# Altium footprint library ECET231_ProjectThree_PCBLIB_Rev01.PcbLib: 16 footprints
Each footprint in its own frame and in the unit in brackets; x right, y up, seen from the top. Pads: shape width x height; smd on the part's side, far side on the other; paste and mask are expansions set on the pad; w line width, h text height; cw(c..) or ccw(c..) is an arc to the next point about the centre after c.
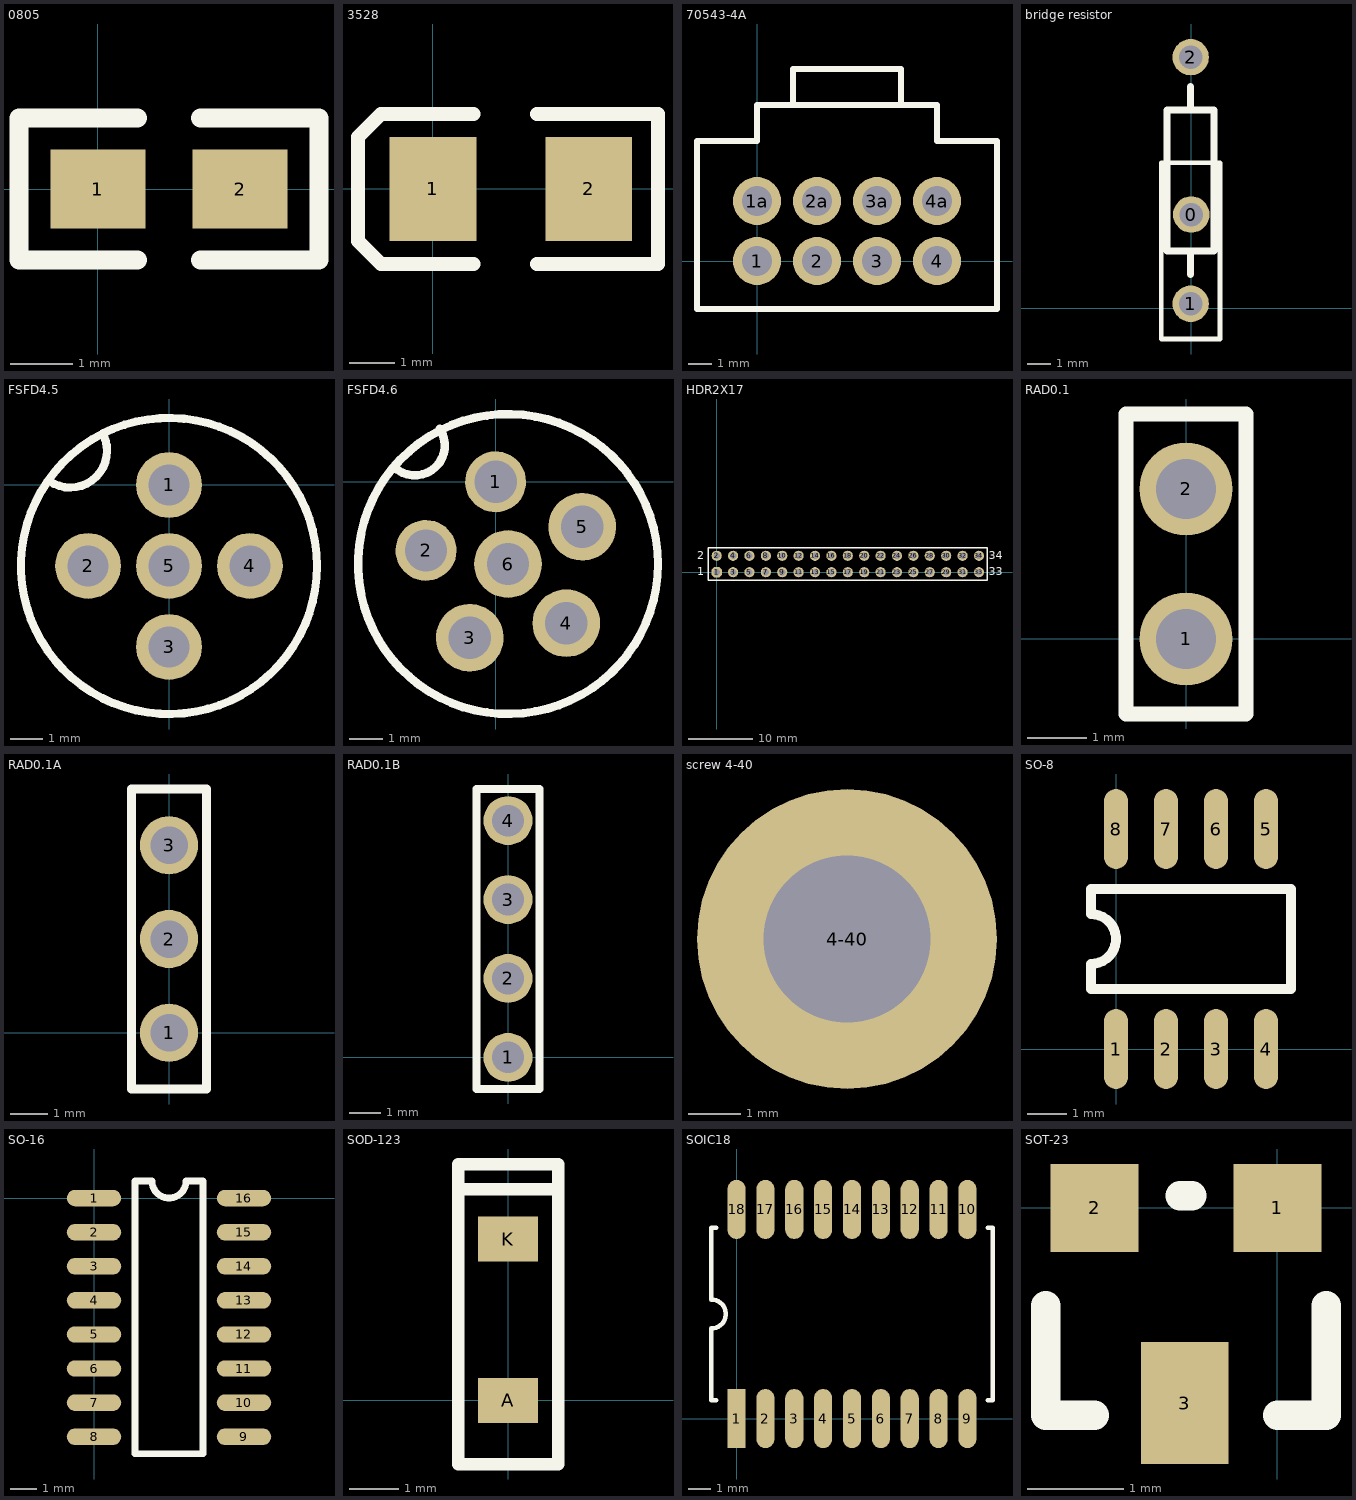
[diagram p0: the footprints below, top view; thin cyan lines are the x and y axes]

## 0805 [mil]
pads (2):
  rect 60x50 smd: 1(0,0) 2(90,0)
Top Overlay:
  lines w12: 25,-45 -50,-45 -50,45 25,45 ; 65,-45 140,-45 140,45 65,45

## 3528 [mil]
pads (2):
  rect 75x90 smd: 1(0,0) 2(135,0)
Top Overlay:
  lines w12: 35,-65 -45,-65 -65,-45 -65,45 -45,65 35,65 ; 90,-65 195,-65 195,65 90,65

## 70543-4A [mil]
pads (8):
  round 80 hole 50: 1(0,0) 1a(0,100) 2(100,0) 2a(100,100) 3(200,0) 3a(200,100) 4(300,0) 4a(300,100)
Top Overlay:
  lines w10: -100,0 -100,100 -100,200 0,200 0,260 300,260 300,200 400,200 400,100 400,0 ; -100,20 -100,-80 0,-80 300,-80 400,-80 400,20 ; 60,260 60,320 240,320 240,260

## bridge resistor [mil]
pads (3):
  round 62 hole 40: 0(0,160) 1(-1,8) 2(-1,428)
Top Overlay:
  lines w8: -51,-52 -51,248 49,248 49,-52 -51,-52
  lines w12: -1,58 -1,98 ; -1,338 -1,378 ; -41,98 -41,338 39,338 39,98 -41,98

## FSFD4.5 [mil]
pads (5):
  round 80 hole 50: 1(0,0) 2(-98.42,-98.42) 3(0,-196.85) 4(98.42,-98.42) 5(0,-98.42)
Top Overlay:
  circle w10: c0,-98.42 r180
  lines w10: -140,1.58 ccw(c-120,41.58) -80,61.57

## FSFD4.6 [mil]
pads (6):
  round 72 hole 50: 1(0,0) 2(-82.15,-80.99)
  round 80 hole 50: 3(-30.51,-184.15) 4(83.56,-166.91) 5(102.42,-53.1) 6(14.66,-97.03)
Top Overlay:
  circle w10: c14.66,-97.03 r177.16
  lines w10: -120.34,17.97 ccw(c-95.34,42.97) -65.92,62.58

## HDR2X17 [mil]
pads (34):
  oct 62x62 hole 40: 1(0,0)
  round 62 hole 40: 2(0,100) 3(100,0) 4(100,100) 5(200,0) 6(200,100) 7(300,0) 8(300,100) 9(400,0) 10(400,100) 11(500,0) 12(500,100) 13(600,0) 14(600,100) 15(700,0) 16(700,100) 17(800,0) 18(800,100) 19(900,0) 20(900,100) 21(1000,0) 22(1000,100) 23(1100,0) 24(1100,100) 25(1200,0) 26(1200,100) 27(1300,0) 28(1300,100) 29(1400,0) 31(1500,0) 32(1500,100) 33(1600,0) 34(1600,100)
  round 62 hole 42: 30(1400,100)
Top Overlay:
  lines w8: -50,-50 -50,150 1650,150 1650,-50 -50,-50
  text "2" at -120,80 h50
  text "1" at -120,-20 h50
  text "33" at 1660,-20 h50
  text "34" at 1660,80 h50

## RAD0.1 [mil]
pads (2):
  round 62 hole 40: 1(0,0) 2(0,100)
Top Overlay:
  lines w10: -40,-50 -40,150 0,150 40,150 40,-30 40,-50 -40,-50

## RAD0.1A [mil]
pads (3):
  round 62 hole 40: 1(0,0) 2(0,100) 3(0,200)
Top Overlay:
  lines w10: -40,-60 -40,260 0,260 40,260 40,-60 -40,-60

## RAD0.1B [mil]
pads (4):
  round 62 hole 40: 1(0,0) 2(0,100) 3(0,200) 4(0,300)
Top Overlay:
  lines w10: -40,-40 -40,240 -40,340 40,340 40,240 40,140 40,60 40,-40 -40,-40

## screw 4-40 [mil]
pads (1):
  round 225 hole 125: 4-40(50107,49660)

## SO-8 [mil]
pads (8):
  oval 24x80 smd: 1(0,0) 2(50,0) 3(100,0) 4(150,0) 5(150,220) 6(100,220) 7(50,220) 8(0,220)
Top Overlay:
  lines w10: -25,60 175,60 175,160 -25,160 -25,135 cw(c-25,110) -25,85 -25,60

## SO-16 [mil]
pads (16):
  oval 80x24 smd: 1(0,0) 2(0,-50) 3(0,-100) 4(0,-150) 5(0,-200) 6(0,-250) 7(0,-300) 8(0,-350) 9(220,-350) 10(220,-300) 11(220,-250) 12(220,-200) 13(220,-150) 14(220,-100) 15(220,-50) 16(220,0)
Top Overlay:
  lines w10: 60,-375 60,25 85,25 ccw(c110,25) 135,25 160,25 160,-375 60,-375

## SOD-123 [mil]
pads (2):
  rect 48x36 smd: A(0,0) K(0,129)
Top Overlay:
  lines w8: -40,11.5 -40,21.5 ; 40,11.5 40,21.5
  lines w10: -40,169 40,169 ; -40,-51 -40,189 40,189 40,-51 -40,-51

## SOIC18 [mm]
pads (18):
  rect 0.8x2.6 smd: 1(0,0)
  oval 0.8x2.6 smd: 2(1.27,0) 3(2.54,0) 4(3.81,0) 5(5.08,0) 6(6.35,0) 7(7.62,0) 8(8.89,0) 9(10.16,0) 10(10.16,9.2) 11(8.89,9.2) 12(7.62,9.2) 13(6.35,9.2) 14(5.08,9.2) 15(3.81,9.2) 16(2.54,9.2) 17(1.27,9.2) 18(0,9.2)
Top Overlay:
  lines w0.2: -0.9,0.8 -1.105,0.8 -1.105,3.965 ccw(c-1.105,4.6) -1.105,5.235 -1.105,8.4 -0.9,8.4 ; 11.06,0.8 11.265,0.8 11.265,8.4 11.06,8.4

## SOT-23 [mil]
pads (3):
  rect 36x36 smd: 1(0,0) 2(-75,0)
  rect 36x50 smd: 3(-38,-80)
Top Overlay:
  lines w12: -95,-40 -95,-85 -75,-85 ; -40,5 -35,5 ; 0,-85 20,-85 20,-40